# Altium footprint library DAQ.PcbLib: 36 footprints (part 1 of 3)
Each footprint in its own frame and in the unit in brackets; x right, y up, seen from the top. Pads: shape width x height; smd on the part's side, far side on the other; paste and mask are expansions set on the pad; w line width, h text height; cw(c..) or ccw(c..) is an arc to the next point about the centre after c.
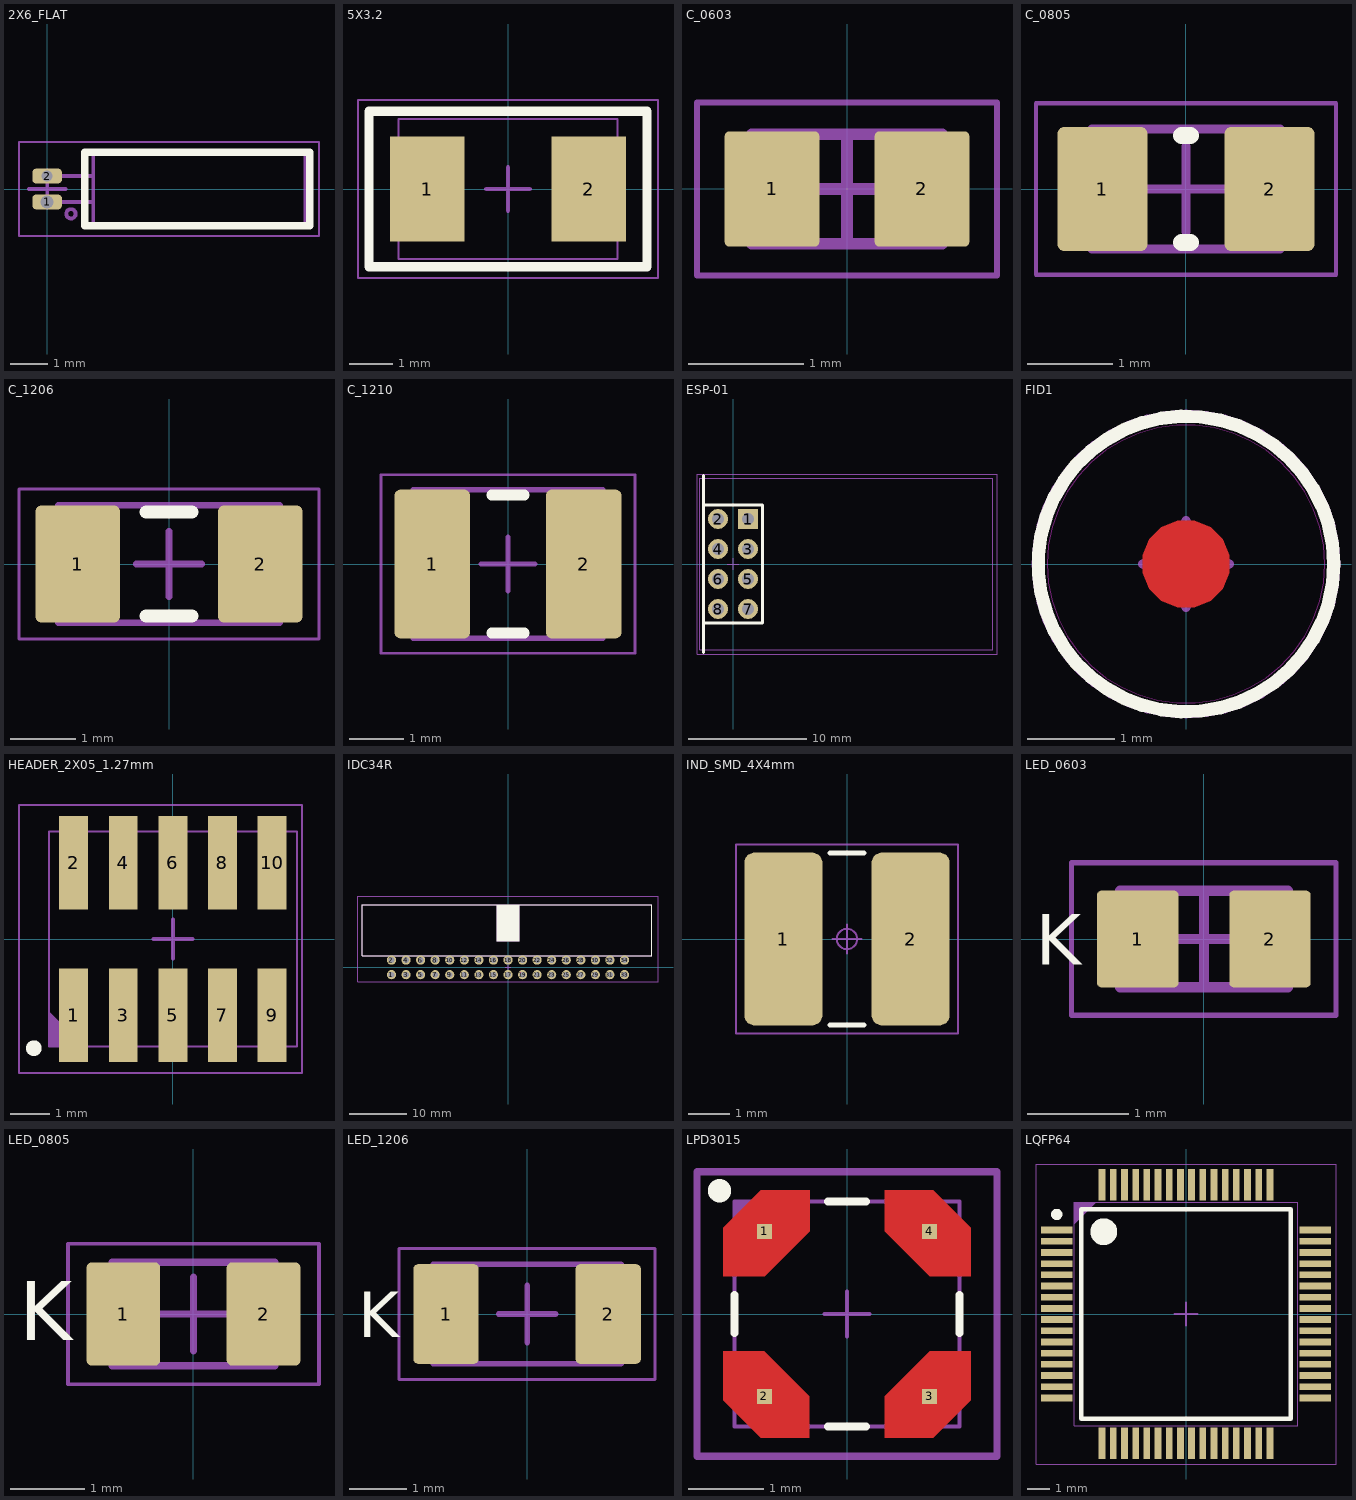
[diagram p0: the footprints below, top view; thin cyan lines are the x and y axes]

## 2X6_FLAT [mm]
pads (2):
  rrect50% 0.8x0.4 hole 0.35: 1(0,-0.35)
  rrect50% 0.8x0.4 hole 0.3: 2(0,0.35)
Top Overlay:
  lines w0.2: 1.016,-1 1.016,0 1.016,1 7.112,1 7.112,-1 1.016,-1
Top Component Outline:
  circle w0.102: c0.647,-0.673 r0.127
  lines w0.102: 0,-0.35 1.25,-0.35 ; 0,0.35 1.25,0.35 ; 1.25,-1 7,-1 7,1 1.25,1 1.25,-1
Top Courtyard:
  lines w0.05: -0.762,-1.27 -0.762,1.27 7.366,1.27 7.366,-1.27 -0.762,-1.27
  lines w0.1: -0.5,0 0.5,0 ; 0,-0.5 0,0.5
3D body "32 kHz crystal horizontal 2x6 mm.step": height 3, standoff -1, extent -0.14,-1 7,1

## 5X3.2 [mm] "TXC 7A series crysal oscillator footprint"
pads (2):
  rect 1.7x2.4 smd: 1(-1.85,0) 2(1.85,0)
Top Overlay:
  lines w0.21: -3.175,-1.778 -3.175,1.778 0.178,1.778 3.175,1.778 3.175,-1.778 -0.178,-1.778 -3.175,-1.778
Top Component Outline:
  lines w0.051: -2.5,-1.6 0,-1.6 2.5,-1.6 2.5,1.6 0,1.6 -2.5,1.6 -2.5,-1.6
Top Courtyard:
  lines w0.05: -3.429,-2.032 -3.429,-1.8 -3.429,2.032 -0.232,2.032 3.429,2.032 3.429,1.8 3.429,-2.032 0.232,-2.032 -3.429,-2.032
  lines w0.1: -0.5,0 0,0 ; 0,-0.5 0,0 ; 0,0.5 0,0 ; 0.5,0 0,0
3D body "Crystal TXC 7A Series.step": height 1.26, standoff 0.01, extent -2.5,-1.6 2.5,1.6

## C_0603 [mm] "Chip Capacitor, 2-Leads, Body 1.57x0.85mm, IPC Medium Density"
height 0.95
pads (2):
  rrect10% 0.82x1 smd: 1(-0.65,0) 2(0.65,0)
Top Component Outline:
  lines w0.1: -0.825,-0.475 -0.825,0.475 0.825,0.475 0.825,-0.475 -0.825,-0.475
Top Courtyard:
  lines w0.05: -1.3,-0.75 -1.3,0.75 1.3,0.75 1.3,-0.75 -1.3,-0.75
  lines w0.1: -0.475,0 0.475,0 ; 0,-0.475 0,0.475
3D body "C0603N.step": height 0.95, standoff 0, extent -0.825,-0.475 0.825,0.475

## C_0805 [mm] "Chip Capacitor, 2-Leads, Body 2.05x1.25mm, IPC Medium Density"
height 1.4
pads (2):
  rrect15% 1.05x1.45 smd: 1(-0.975,0) 2(0.975,0)
Top Overlay:
  lines w0.2: -0.05,-0.625 0.05,-0.625 ; -0.05,0.625 0.05,0.625
Top Component Outline:
  lines w0.1: -1.1,-0.7 1.1,-0.7 1.1,0.7 -1.1,0.7 -1.1,-0.7
Top Courtyard:
  lines w0.05: -1.75,-1 1.75,-1 1.75,1 -1.75,1 -1.75,-1
  lines w0.1: -0.5,0 0.5,0 ; 0,-0.5 0,0.5
3D body "C0805_N.step": height 1.4, standoff 0, extent -1.1,-0.7 1.1,0.7

## C_1206 [mm] "Chip Capacitor, 2-Leads, Body 3.20x1.60mm, IPC Medium Density"
height 1.8
pads (2):
  rrect15% 1.3x1.8 smd: 1(-1.4,0) 2(1.4,0)
Top Overlay:
  lines w0.2: -0.35,-0.8 0.35,-0.8 ; -0.35,0.8 0.35,0.8
Top Component Outline:
  lines w0.1: -1.7,-0.9 1.7,-0.9 1.7,0.9 -1.7,0.9 -1.7,-0.9
Top Courtyard:
  lines w0.05: -2.3,-1.15 2.3,-1.15 2.3,1.15 -2.3,1.15 -2.3,-1.15
  lines w0.1: -0.5,0 0.5,0 ; 0,-0.5 0,0.5
3D body "C1206(3216)_N.step": height 1.8, standoff 0, extent -1.7,-0.9 1.7,0.9

## C_1210 [mm] "Chip Capacitor, 2-Leads, Body 3.20x2.50mm, IPC Medium Density"
height 2.8
pads (2):
  rrect15% 1.4x2.75 smd: 1(-1.4,0) 2(1.4,0)
Top Overlay:
  lines w0.2: -0.3,-1.275 0.3,-1.275 ; -0.3,1.275 0.3,1.275
Top Component Outline:
  lines w0.1: -1.75,-1.375 -1.75,1.375 1.75,1.375 1.75,-1.375 -1.75,-1.375
Top Courtyard:
  lines w0.05: -2.35,-1.65 -2.35,1.65 2.35,1.65 2.35,-1.65 -2.35,-1.65
  lines w0.1: -0.5,0 0.5,0 ; 0,-0.5 0,0.5
3D body "C1210(3225)_N.step": height 2.8, standoff 0, extent -1.75,-1.375 1.75,1.375

## ESP-01 [mm]
pads (8):
  rect 1.7x1.7 hole 1: 1(1.27,3.81)
  round 1.7 hole 1: 2(-1.27,3.81) 3(1.27,1.27) 4(-1.27,1.27) 5(1.27,-1.27) 6(-1.27,-1.27) 7(1.27,-3.81) 8(-1.27,-3.81)
Top Overlay:
  lines w0.254: -2.5,-7.5 -2.5,7.5 ; -2.5,-5 2.5,-5 2.5,5 -2.5,5
Top Component Outline:
  circle w0.102: c1.27,3.81 r0.359
  lines w0.102: -2.8,-7.25 22,-7.25 22,7.25 -2.8,7.25 -2.8,-7.25
Top Courtyard:
  lines w0.05: -3.048,-7.62 22.352,-7.62 22.352,7.62 -3.048,7.62 -3.048,-7.62
  lines w0.1: -0.5,0 0.5,0 ; 0,-0.5 0,0.5
3D body "User Library-Wi07C.step": height 13.88, standoff 2.2, extent -2.8,-7.25 22,7.25

## FID1 [mm]
Top Layer:
  region: 0,-0.5 -0.099,-0.5 -0.283,-0.424 -0.424,-0.283 -0.5,-0.099 -0.5,0 -0.5,0.099 -0.424,0.283 -0.283,0.424 -0.099,0.5 0,0.5 0.099,0.5 0.283,0.424 0.424,0.283 0.5,0.099 0.5,0 0.5,-0.099 0.424,-0.283 0.283,-0.424 0.099,-0.5
Top Overlay:
  circle w0.152: c0,0 r1.702
Top Solder:
  region: 0,-1.5 -0.148,-1.5 -0.438,-1.442 -0.711,-1.329 -0.956,-1.165 -1.165,-0.956 -1.329,-0.711 -1.442,-0.438 -1.5,-0.148 -1.5,0 -1.5,0.148 -1.442,0.438 -1.329,0.711 -1.165,0.956 -0.956,1.165 -0.711,1.329 -0.438,1.442 -0.148,1.5 0,1.5 0.148,1.5 0.438,1.442 0.711,1.329 0.956,1.165 1.165,0.956 1.329,0.711 1.442,0.438 1.5,0.148 1.5,0 1.5,-0.148 1.442,-0.438 1.329,-0.711 1.165,-0.956 0.956,-1.165 0.711,-1.329 0.438,-1.442 0.148,-1.5
Keep-Out Layer:
  circle w0.01: c0,0 r1.6
Top Courtyard:
  circle w0.102: c0,0 r1.727
  lines w0.1: -0.5,0 0.5,0 ; 0,-0.5 0,0.5

## HEADER_2X05_1.27mm [mm]
pads (10):
  rect 0.74x2.4 smd: 1(-2.54,-1.95) 2(-2.54,1.95) 3(-1.27,-1.95) 4(-1.27,1.95) 5(0,-1.95) 6(0,1.95) 7(1.27,-1.95) 8(1.27,1.95) 9(2.54,-1.95) 10(2.54,1.95)
Top Overlay:
  circle w0.2: c-3.556,-2.794 r0.1
Top Component Outline:
  region: -2.275,-2.75 -3.175,-1.85 -3.175,-2.75
  lines w0.051: -3.175,-2.75 -3.175,2.75 3.175,2.75 3.175,-2.75 -3.175,-2.75
Top Courtyard:
  lines w0.05: -3.937,-3.429 3.302,-3.429 3.302,3.429 -3.937,3.429 -3.937,-3.429
  lines w0.1: -0.5,0 0.5,0 ; 0,-0.5 0,0.5
3D body "RM127_2pin_Header.step": height 4.51, standoff 0.01, extent -3.175,-2.75 -1.905,2.75
3D body "RM127_2pin_Header.step": height 4.51, standoff 0.01, extent -1.905,-2.75 -0.635,2.75
3D body "RM127_2pin_Header.step": height 4.51, standoff 0.01, extent -0.635,-2.75 0.635,2.75
3D body "RM127_2pin_Header.step": height 4.51, standoff 0.01, extent 0.635,-2.75 1.905,2.75
3D body "RM127_2pin_Header.step": height 4.51, standoff 0.01, extent 1.905,-2.75 3.175,2.75

## IDC34R [mm]
pads (34):
  round 1.6 hole 1: 1(-20.32,-1.27) 2(-20.32,1.27) 3(-17.78,-1.27) 4(-17.78,1.27) 5(-15.24,-1.27) 6(-15.24,1.27) 7(-12.7,-1.27) 8(-12.7,1.27) 9(-10.16,-1.27) 10(-10.16,1.27) 11(-7.62,-1.27) 12(-7.62,1.27) 13(-5.08,-1.27) 14(-5.08,1.27) 15(-2.54,-1.27) 16(-2.54,1.27) 17(0,-1.27) 18(0,1.27) 19(2.54,-1.27) 20(2.54,1.27) 21(5.08,-1.27) 22(5.08,1.27) 23(7.62,-1.27) 24(7.62,1.27) 25(10.16,-1.27) 26(10.16,1.27) 27(12.7,-1.27) 28(12.7,1.27) 29(15.24,-1.27) 30(15.24,1.27) 31(17.78,-1.27) 32(17.78,1.27) 33(20.32,-1.27) 34(20.32,1.27)
Top Overlay:
  region: 2,10.9 0,10.9 0,4.5 2,4.5
  rectangle: -2,4.5 0,10.9
  lines w0.21: -25.4,2 -25.4,10.9 25.1,10.9 25.1,2 0,2 -25.4,2
Top Component Outline:
  rectangle: -2,4.5 0,10.9
  region: 2,10.9 0,10.9 0,4.5 2,4.5
  lines w0.21: -25.4,2 0,2 25.1,2 25.1,10.9 -25.4,10.9 -25.4,2
Top Courtyard:
  lines w0.05: -26.162,-2.54 26.162,-2.54 26.162,12.446 -26.162,12.446 -26.162,-2.54
  lines w0.1: -0.5,0 0.5,0 ; 0,-0.5 0,0.5
3D body "IDC34R.STEP": height 8.85, standoff -2.5, extent -25.71,-1.56 25.71,12

## IND_SMD_4X4mm [mm]
pads (2):
  rrect26% 1.91x4.22 smd: 1(-1.555,0) 2(1.555,0)
Top Overlay:
  lines w0.12: -0.42,-2.1 0.42,-2.1 ; -0.42,2.1 0.42,2.1
Top Courtyard:
  circle w0.05: c0,0 r0.25
  lines w0.05: -0.35,0 0.35,0 ; 0,-0.35 0,0.35 ; -2.71,-2.31 2.71,-2.31 2.71,2.31 -2.71,2.31 -2.71,-2.31
3D body "STEP-WE-LQS-4025-rev1.stp": height 2.15, standoff 0, extent -2,-2 2,2

## LED_0603 [mm] "SMD LED, 2-Leads, Body 1.57x0.85mm, IPC Medium Density"
height 0.5
pads (2):
  rrect10% 0.8x0.95 smd: 1(-0.65,0) 2(0.65,0)
Top Overlay:
  text "K" at -1.651,-0.254 h0.5
Top Component Outline:
  lines w0.1: -0.825,-0.475 0.825,-0.475 0.825,0.475 -0.825,0.475 -0.825,-0.475
Top Courtyard:
  lines w0.05: -1.3,-0.75 1.3,-0.75 1.3,0.75 -1.3,0.75 -1.3,-0.75
  lines w0.1: -0.475,0 0.475,0 ; 0,-0.475 0,0.475
3D body "STEP-WL-SMCW-0603-rev1.stp": height 0.7, standoff 0, extent -0.8,-0.4 0.8,0.4

## LED_0805 [mm] "SMD LED, 2-Leads, Body 2.05x1.25mm, IPC Medium Density"
height 0.8
pads (2):
  rrect15% 1x1.4 smd: 1(-0.95,0) 2(0.95,0)
Top Overlay:
  text "K" at -2.362,-0.356 h0.8
Top Component Outline:
  lines w0.1: -1.1,-0.7 1.1,-0.7 1.1,0.7 -1.1,0.7 -1.1,-0.7
Top Courtyard:
  lines w0.05: -1.7,-0.95 1.7,-0.95 1.7,0.95 -1.7,0.95 -1.7,-0.95
  lines w0.1: -0.5,0 0.5,0 ; 0,-0.5 0,0.5
3D body "STEP-WL-SMCW-0805-rev1.stp": height 0.7, standoff 0, extent -1,-0.625 1,0.625

## LED_1206 [mm] "SMD LED, 2-Leads, Body 3.15x1.60mm, IPC Medium Density"
height 0.6
pads (2):
  rrect15% 1.15x1.75 smd: 1(-1.425,0) 2(1.425,0)
Top Overlay:
  text "K" at -2.972,-0.406 h0.8
Top Component Outline:
  lines w0.1: -1.65,-0.875 -1.65,0.875 1.65,0.875 1.65,-0.875 -1.65,-0.875
Top Courtyard:
  lines w0.05: -2.25,-1.15 -2.25,1.15 2.25,1.15 2.25,-1.15 -2.25,-1.15
  lines w0.1: -0.5,0 0.5,0 ; 0,-0.5 0,0.5
3D body "STEP-WL-SMCW-1206-rev1.stp": height 0.68, standoff 0, extent -1.6,-0.8 1.6,0.8

## LPD3015 [mm]
pads (4):
  rect 0.2x0.2 smd: 1(-1.1,1.1) 2(-1.1,-1.1) 3(1.1,-1.1) 4(1.1,1.1)
Top Layer:
  region: -1.65,-0.5 -1.1,-0.5 -0.5,-1.1 -0.5,-1.65 -1.15,-1.65 -1.65,-1.15
  region: 1.65,-0.5 1.1,-0.5 0.5,-1.1 0.5,-1.65 1.15,-1.65 1.65,-1.15
  region: 1.65,0.5 1.1,0.5 0.5,1.1 0.5,1.65 1.15,1.65 1.65,1.15
  region: -1.65,0.5 -1.1,0.5 -0.5,1.1 -0.5,1.65 -1.15,1.65 -1.65,1.15
Top Overlay:
  lines w0.102: -1.5,-0.254 -1.5,0.254 ; -0.254,-1.5 0.254,-1.5 ; -0.254,1.5 0.254,1.5 ; 1.5,-0.254 1.5,0.254
  lines w0.21: -1.65,1.643 cw(c-1.7,1.643) -1.651,1.651
Top Component Outline:
  region: -0.9,1.5 -1.5,0.9 -1.5,1.5
  lines w0.051: -1.5,-1.5 1.5,-1.5 1.5,1.5 0,1.5 -1.5,1.5 -1.5,-1.5
Top Courtyard:
  lines w0.05: -0.3,0 0,0 ; 0,-0.3 0,0 ; 0,0.3 0,0 ; 0.3,0 0,0
  lines w0.1: -2,-1.9 -2,0 -2,1.9 0,1.9 2,1.9 2,0 2,-1.9 0,-1.9 -2,-1.9
3D body "Coilcraft-LPD3015-DEFAULT.STEP": height 1.5, standoff 0, extent -1.55,-1.538 1.526,1.538

## LQFP64 [mm]
pads (64):
  rect 1.4x0.3 smd: 1(-5.775,3.75) 2(-5.775,3.25) 3(-5.775,2.75) 4(-5.775,2.25) 5(-5.775,1.75) 6(-5.775,1.25) 7(-5.775,0.75) 8(-5.775,0.25) 9(-5.775,-0.25) 10(-5.775,-0.75) 11(-5.775,-1.25) 12(-5.775,-1.75) 13(-5.775,-2.25) 14(-5.775,-2.75) 15(-5.775,-3.25) 16(-5.775,-3.75) 33(5.775,-3.75) 34(5.775,-3.25) 35(5.775,-2.75) 36(5.775,-2.25) 37(5.775,-1.75) 38(5.775,-1.25) 39(5.775,-0.75) 40(5.775,-0.25) 41(5.775,0.25) 42(5.775,0.75) 43(5.775,1.25) 44(5.775,1.75) 45(5.775,2.25) 46(5.775,2.75) 47(5.775,3.25) 48(5.775,3.75)
  rect 0.3x1.4 smd: 17(-3.75,-5.775) 18(-3.25,-5.775) 19(-2.75,-5.775) 20(-2.25,-5.775) 21(-1.75,-5.775) 22(-1.25,-5.775) 23(-0.75,-5.775) 24(-0.25,-5.775) 25(0.25,-5.775) 26(0.75,-5.775) 27(1.25,-5.775) 28(1.75,-5.775) 29(2.25,-5.775) 30(2.75,-5.775) 31(3.25,-5.775) 32(3.75,-5.775) 49(3.75,5.775) 50(3.25,5.775) 51(2.75,5.775) 52(2.25,5.775) 53(1.75,5.775) 54(1.25,5.775) 55(0.75,5.775) 56(0.25,5.775) 57(-0.25,5.775) 58(-0.75,5.775) 59(-1.25,5.775) 60(-1.75,5.775) 61(-2.25,5.775) 62(-2.75,5.775) 63(-3.25,5.775) 64(-3.75,5.775)
Top Overlay:
  circle w0.25: c-5.775,4.45 r0.125
  circle w0.6: c-3.675,3.675 r0.3
  lines w0.2: -4.675,-4.675 -4.675,4.675 4.675,4.675 4.675,-4.675 -4.675,-4.675
Top Component Outline:
  region: -4,5 -5,4 -5,5
  lines w0.051: -5,-5 -5,5 5,5 5,-5 -5,-5
Top Courtyard:
  lines w0.05: -6.7,-6.7 -6.7,6.7 6.7,6.7 6.7,-6.7 -6.7,-6.7
  lines w0.1: -0.5,0 0.5,0 ; 0,-0.5 0,0.5
3D body "LQFP64.STEP": height 1.6, standoff 0, extent -6,-6 6,6